# Altium schematic symbol library 3020-40-0100-00.SchLib: 2 symbols
Pins are listed as number, name and electrical type; pins without a type are passive.

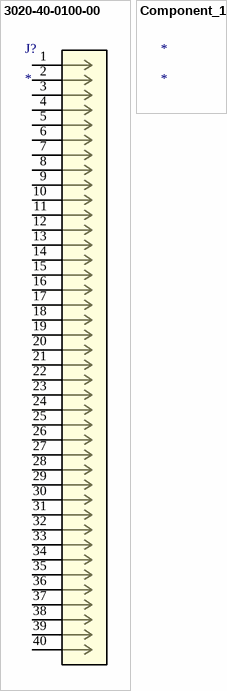
[diagram p0: symbols 3020-40-0100-00 to Component_1]

## 3020-40-0100-00
designator J?
No Description Available; Mfr_Name: CNC Tech; RefDes: RefDes; Type: Type
footprint CONN_3020-40-0100-00_CNC
pins: 1, 2, 3, 4, 5, 6, 7, 8, 9, 10, 11, 12, 13, 14, 15, 16, 17, 18, 19, 20, 21, 22, 23, 24, 25, 26, 27, 28, 29, 30, 31, 32, 33, 34, 35, 36, 37, 38, 39, 40

## Component_1
designator *